# Altium schematic symbol library Components.SchLib: 6 symbols
Pins are listed as number, name and electrical type; pins without a type are passive.

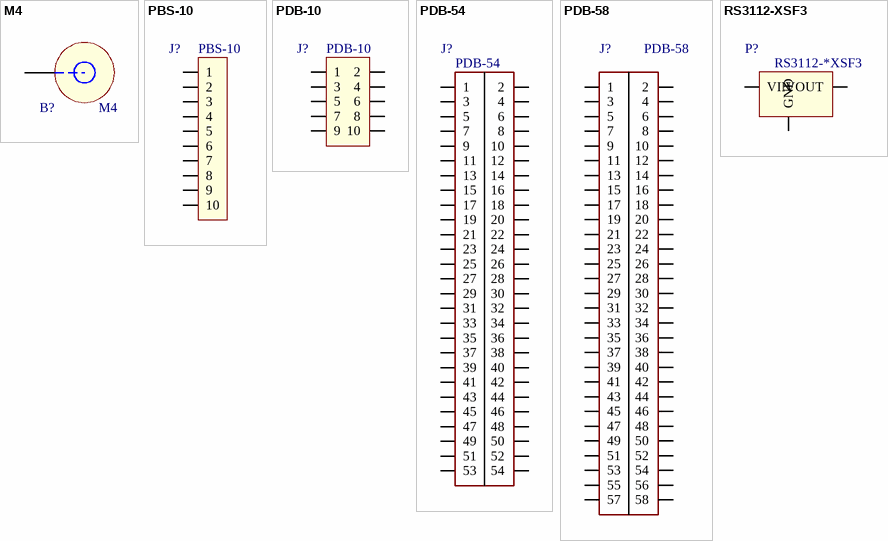
[diagram p0: symbols M4 to RS3112-XSF3]

## M4
designator B?
footprint M4
pins: 1

## PBS-10
designator J?
footprint PBS-10
pins: 1, 2, 3, 4, 5, 6, 7, 8, 9, 10

## PDB-10
designator J?
footprint PDB-10
pins: 1, 2, 3, 4, 5, 6, 7, 8, 9, 10

## PDB-54
designator J?
footprint PBD-54
pins: 1, 2, 3, 4, 5, 6, 7, 8, 9, 10, 11, 12, 13, 14, 15, 16, 17, 18, 19, 20, 21, 22, 23, 24, 25, 26, 27, 28, 29, 30, 31, 32, 33, 34, 35, 36, 37, 38, 39, 40, 41, 42, 43, 44, 45, 46, 47, 48, 49, 50, 51, 52, 53, 54

## PDB-58
designator J?
footprint PBD-58
pins: 1, 2, 3, 4, 5, 6, 7, 8, 9, 10, 11, 12, 13, 14, 15, 16, 17, 18, 19, 20, 21, 22, 23, 24, 25, 26, 27, 28, 29, 30, 31, 32, 33, 34, 35, 36, 37, 38, 39, 40, 41, 42, 43, 44, 45, 46, 47, 48, 49, 50, 51, 52, 53, 54, 55, 56, 57, 58

## RS3112-XSF3
designator P?, comment RS3112-*XSF3
pins: 1 VIN "IN", 2 VOUT "IN", 3 GND "IN"